# EAGLE library part M10578 (library M10578)
Simple drop in solution full GNSS receiver (GPS/GLONASS/GALILEO/BEIDOU) • MediaTek MT3333 flash chip • Ultra-small SMD package; 9.0 x 9.0 x 1.8mm • Low current consumption • AIC, Active Interference Cancellation • EASY - Internally generated orbit prediction for fast fix times.
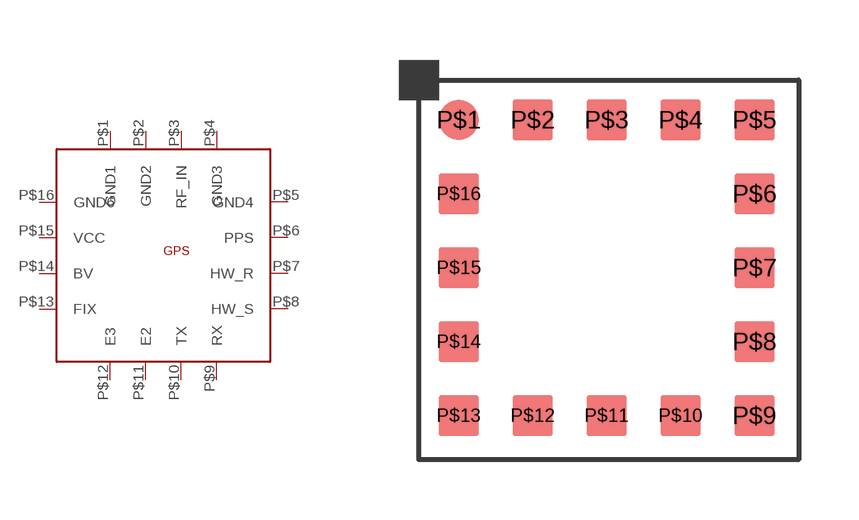
[diagram p0: symbol with the pads of M10578; footprint M10578]

Designator prefix -

## M10578  [M10578]
P$1  GND1
P$2  GND2
P$3  RF_IN
P$4  GND3
P$5  GND4
P$6  PPS
P$7  HW_R
P$8  HW_S
P$9  RX
P$10  TX
P$11  E2
P$12  E3
P$13  FIX
P$14  BV
P$15  VCC
P$16  GND6

## Footprint M10578 (pad centres in mm)
smd 1 x 1: P$1 0,0; P$2 1.85,0; P$3 3.7,0; P$4 5.55,0; P$5 7.4,0; P$6 7.4,-1.85; P$7 7.4,-3.7; P$8 7.4,-5.55; P$9 7.4,-7.4; P$10 5.55,-7.4; P$11 3.7,-7.4; P$12 1.85,-7.4; P$13 0,-7.4; P$14 0,-5.55; P$15 0,-3.7; P$16 0,-1.85